# Altium footprint library EADOGM132W.PcbLib: 1 footprints
Each footprint in its own frame and in the unit in brackets; x right, y up, seen from the top. Pads: shape width x height; smd on the part's side, far side on the other; paste and mask are expansions set on the pad; w line width, h text height; cw(c..) or ccw(c..) is an arc to the next point about the centre after c.
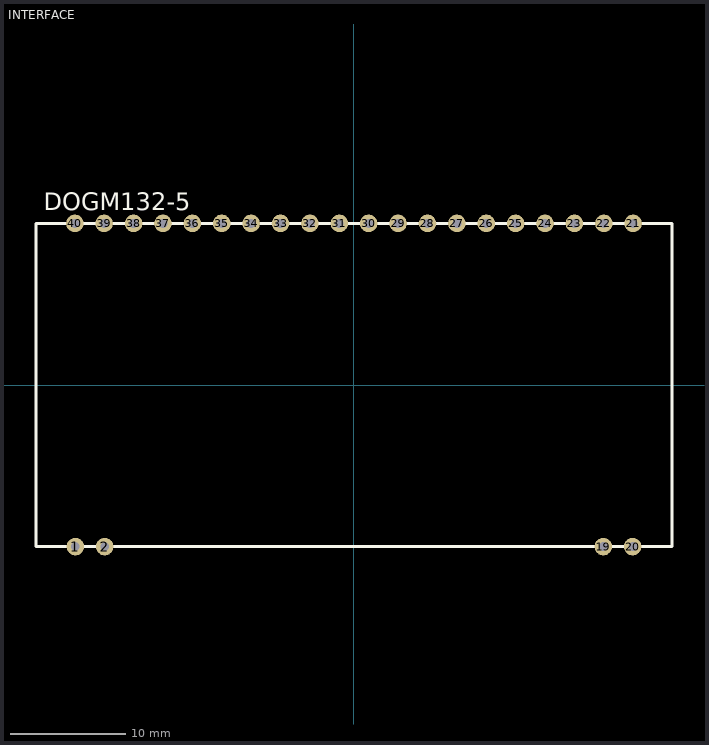
[diagram p0: the footprint, top view; thin cyan lines are the x and y axes]

## INTERFACE [mil]
pads (24):
  round 60 hole 30: 1(-948.23,-550) 2(-848.23,-550) 19(848.23,-550) 20(948.23,-550) 21(950,550) 22(850,550) 23(750,550) 24(650,550) 25(550,550) 26(450,550) 27(350,550) 28(250,550) 29(150,550) 30(50,550) 31(-50,550) 32(-150,550) 33(-250,550) 34(-350,550) 35(-450,550) 36(-550,550) 37(-650,550) 38(-750,550) 39(-850,550) 40(-950,550)
Top Overlay:
  lines w10: -1082.68,-550 1082.68,-550 1082.68,550 -1082.68,550 -1082.68,-550
  text "DOGM132-5" at -1055,595 h60